# Altium footprint library AMASS_XT60PW-F.PcbLib: 1 footprints
Each footprint in its own frame and in the unit in brackets; x right, y up, seen from the top. Pads: shape width x height; smd on the part's side, far side on the other; paste and mask are expansions set on the pad; w line width, h text height; cw(c..) or ccw(c..) is an arc to the next point about the centre after c.
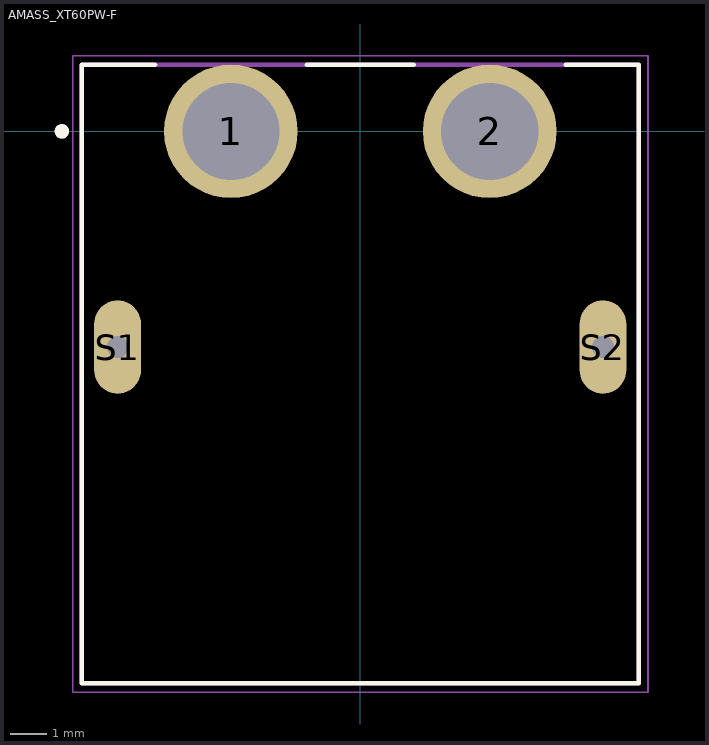
[diagram p0: the footprint, top view; thin cyan lines are the x and y axes]

## AMASS_XT60PW-F [mm]
pads (4):
  round 3.716 hole 2.7: 1(-3.6,0) 2(3.6,0)
  oval 1.3x2.6 hole 0.6 square: S1(-6.75,-6) S2(6.75,-6)
Top Overlay:
  circle w0.2: c-8.3,0 r0.1
  lines w0.127: -5.71,1.85 -7.75,1.85 -7.75,-15.35 7.75,-15.35 7.75,1.85 5.71,1.85 ; -1.49,1.85 1.49,1.85
Mechanical 13:
  circle w0.2: c-8.3,0 r0.1
  lines w0.127: -7.75,-15.35 -7.75,1.85 7.75,1.85 7.75,-15.35 -7.75,-15.35
Mechanical 15:
  lines w0.05: -8,-15.6 -8,2.1 8,2.1 8,-15.6 -8,-15.6
3D body "XT60PW-F--3DModel-STEP-56544.STEP": height 4.2, standoff -6.75, extent -7.75,-15.295 7.75,1.905